# EAGLE library part CONN-PWRBD-1P1 (library 0_soofa_library)
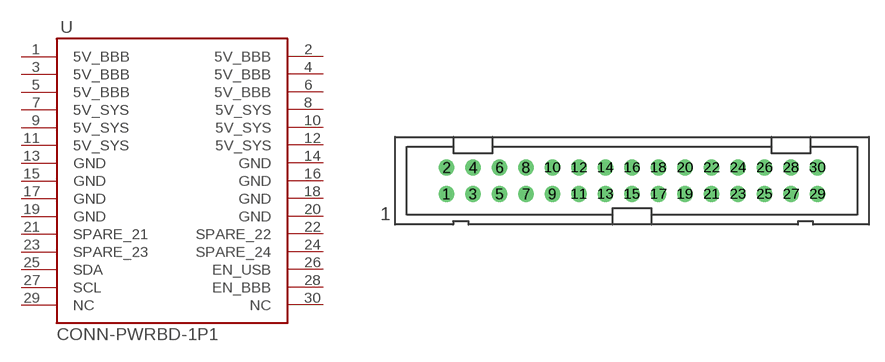
[diagram p2: symbol with the pads of 3M-HEADER-30POS; footprint 3M-HEADER-30POS]

Designator prefix -

## CONN-PWRBD-1P1  [3M-HEADER-30POS]
1  5V_BBB
2  5V_BBB
3  5V_BBB
4  5V_BBB
5  5V_BBB
6  5V_BBB
7  5V_SYS
8  5V_SYS
9  5V_SYS
10  5V_SYS
11  5V_SYS
12  5V_SYS
13  GND
14  GND
15  GND
16  GND
17  GND
18  GND
19  GND
20  GND
21  SPARE_21
22  SPARE_22
23  SPARE_23
24  SPARE_24
25  SDA
26  EN_USB
27  SCL
28  EN_BBB
29  NC
30  NC

## Footprint 3M-HEADER-30POS (pad centres in mm)
3M (TM) Pak 100 4-Wall Header Straight Source: 3M
drill 1 pad 1.422: 1 -17.78,-1.27; 2 -17.78,1.27; 3 -15.24,-1.27; 4 -15.24,1.27; 5 -12.7,-1.27; 6 -12.7,1.27; 7 -10.16,-1.27; 8 -10.16,1.27; 9 -7.62,-1.27; 10 -7.62,1.27; 11 -5.08,-1.27; 12 -5.08,1.27; 13 -2.54,-1.27; 14 -2.54,1.27; 15 0,-1.27; 16 0,1.27; 17 2.54,-1.27; 18 2.54,1.27; 19 5.08,-1.27; 20 5.08,1.27; 21 7.62,-1.27; 22 7.62,1.27; 23 10.16,-1.27; 24 10.16,1.27; 25 12.7,-1.27; 26 12.7,1.27; 27 15.24,-1.27; 28 15.24,1.27; 29 17.78,-1.27; 30 17.78,1.27